# EAGLE library part CAP_SENSE_PINOUT (library smart_glove_breakout)
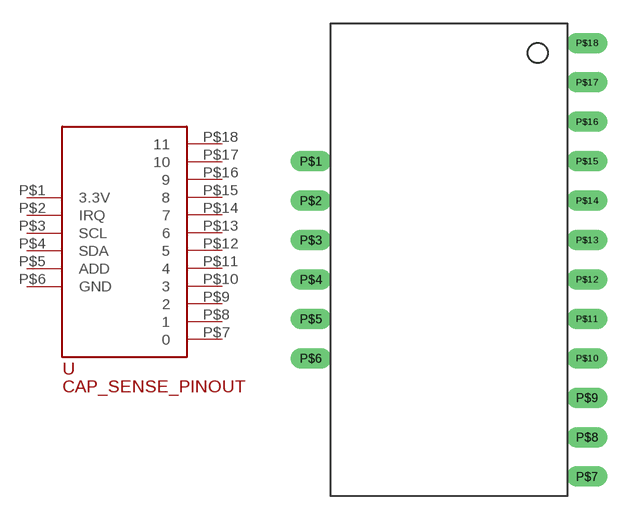
[diagram p1: symbol with the pads of DIP18; footprint DIP18]

Designator prefix -

## CAP_SENSE_PINOUT  [DIP18]
P$1  3.3V
P$2  IRQ
P$3  SCL
P$4  SDA
P$5  ADD
P$6  GND
P$7  0
P$8  1
P$9  2
P$10  3
P$11  4
P$12  5
P$13  6
P$14  7
P$15  8
P$16  9
P$17  10
P$18  11

## Footprint DIP18 (pad centres in mm)
drill 0.8 long: P$1 0,-7.62; P$2 0,-10.16; P$3 0,-12.7; P$4 0,-15.24; P$5 0,-17.78; P$6 0,-20.32; P$7 17.78,-27.94; P$8 17.78,-25.4; P$9 17.78,-22.86; P$10 17.78,-20.32; P$11 17.78,-17.78; P$12 17.78,-15.24; P$13 17.78,-12.7; P$14 17.78,-10.16; P$15 17.78,-7.62; P$16 17.78,-5.08; P$17 17.78,-2.54; P$18 17.78,0